# EAGLE library part TEA5767_V4 (library Module)
TEA5767 Stereo FM Module Ver4.0
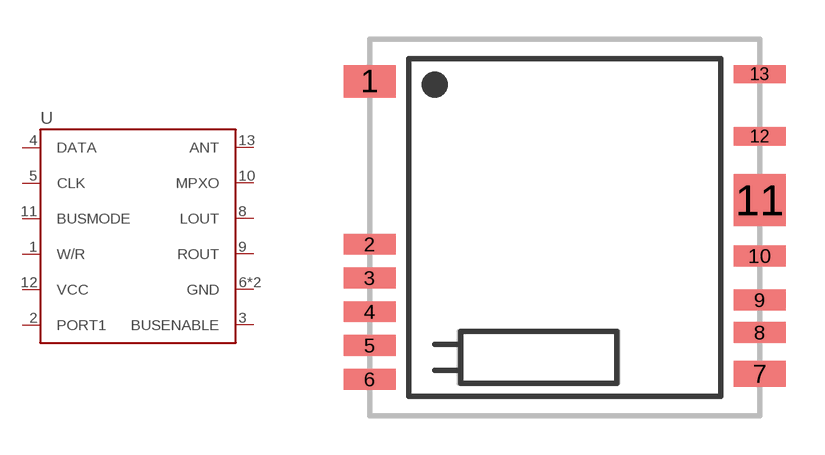
[diagram p2: symbol with the pads of TEA5767_V4; footprint TEA5767_V4]

Designator prefix -

## TEA5767_V4 (DESC: TEA5767 Version 4)  [TEA5767_V4]
1  W/R
2  PORT1
3  BUSENABLE
4  DATA
5  CLK
6  GND
7  GND
8  LOUT
9  ROUT
10  MPXO
11  BUSMODE
12  VCC
13  ANT

## Footprint TEA5767_V4 (pad centres in mm)
smd 2 x 1.25: 1 -7.5,5.625
smd 2 x 0.8: 2 -7.5,-0.65; 3 -7.5,-1.95; 4 -7.5,-3.25; 5 -7.5,-4.55; 6 -7.5,-5.85; 8 7.5,-4.05; 9 7.5,-2.8; 10 7.5,-1.1
smd 2 x 1: 7 7.5,-5.65
smd 2 x 2: 11 7.5,1.05
smd 2 x 0.7: 12 7.5,3.5; 13 7.5,5.9